# Altium integrated library XHT.IntLib: 2 symbols
Pins are listed as number, name and electrical type; pins without a type are passive.

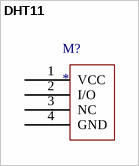
[diagram p0: symbol DHT11]

## DHT11
designator M?
footprint DHT11
pins: 1 VCC, 2 I/O, 3 NC, 4 GND


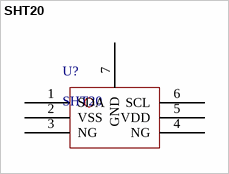
[diagram p1: symbol SHT20]

## SHT20
designator U?
footprint SHT20(DFN100P300X300X110-6N) (DFN, 6-Leads, Body 3.0x3.0mm (max), Pitch 1.00mm, IPC Medium Density)
pins: 1 SDA, 2 VSS, 3 NG, 4 NG, 5 VDD, 6 SCL, 7 GND